# Altium schematic symbol library 野火_F103霸道_原理图封装_V2_0.SCHLIB: 141 symbols (part 2 of 2)
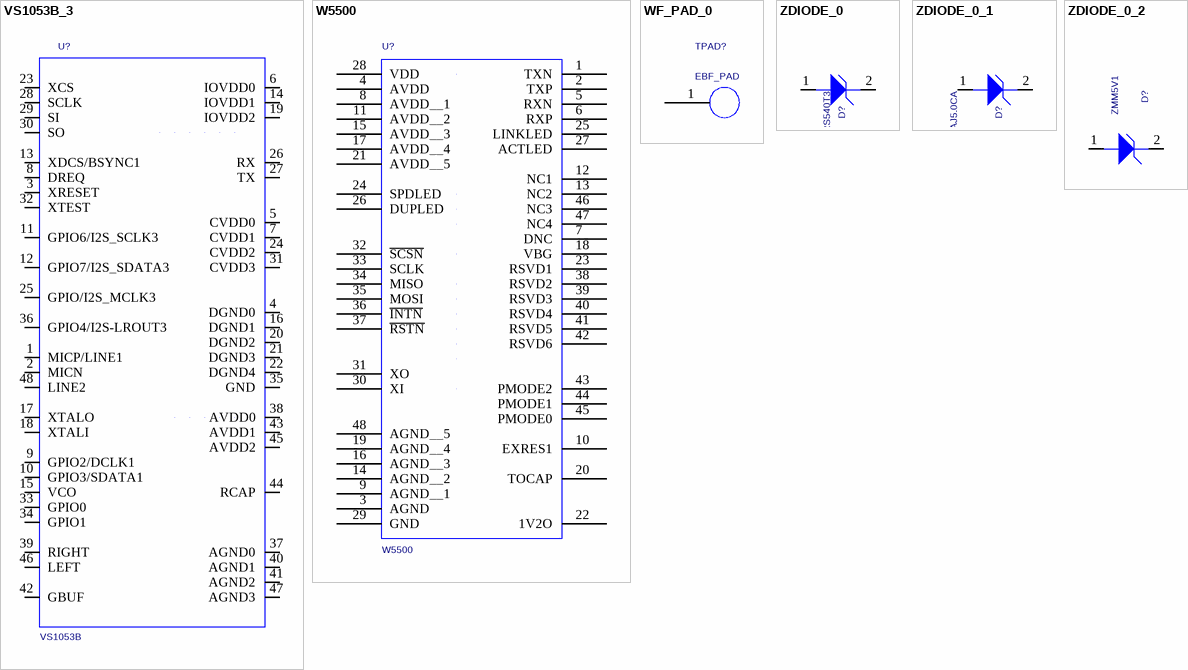
[diagram p5: symbols VS1053B_3 to ZDIODE_0_2]

## VS1053B_3
designator U?  value VS1053B  (hidden comment: VS1053B_3)
VS1053B MP3/WAV/OGG/MIDI Player & Recorder _CODEC_ Chip; PCB DECAL: LQFP48-050-0707; Source_Path: F:\STM32\F103\F103 PRO\野火_F103霸道_原理图_V2.0.DSN; MP: VS1053B-L; MF: VLSI; OriginalSymbolOrigin: (-140000,70000); Price: 11.12 USD; Package: LQFP-48 VLSI; Availability: Warning
footprint LQFP48-050-0707
pins: 1 MICP/LINE1 (io), 2 MICN (io), 3 XRESET (io), 4 DGND0 (power), 5 CVDD0 (power), 6 IOVDD0 (power), 7 CVDD1 (power), 8 DREQ (io), 9 GPIO2/DCLK1 (io), 10 GPIO3/SDATA1 (io), 11 GPIO6/I2S_SCLK3 (io), 12 GPIO7/I2S_SDATA3 (io), 13 XDCS/BSYNC1 (io), 14 IOVDD1 (power), 15 VCO, 16 DGND1 (power), 17 XTALO (io), 18 XTALI (io), 19 IOVDD2 (power), 20 DGND2 (power), 21 DGND3 (power), 22 DGND4 (power), 23 XCS (io), 24 CVDD2 (power), 25 GPIO/I2S_MCLK3 (io), 26 RX (io), 27 TX (io), 28 SCLK (io), 29 SI (io), 30 SO (io), 31 CVDD3 (power), 32 XTEST, 33 GPIO0 (io), 34 GPIO1 (io), 35 GND (power), 36 GPIO4/I2S-LROUT3 (io), 37 AGND0 (power), 38 AVDD0 (power), 39 RIGHT (io), 40 AGND1 (power), 41 AGND2 (power), 42 GBUF (io), 43 AVDD1 (power), 44 RCAP (io), 45 AVDD2 (power), 46 LEFT (io), 47 AGND3 (power), 48 LINE2 (io)

## W5500
designator U?
Victor Pure White Collection Wood Tidy Tower Organizer; PCB DECAL: LQFP48-050-0707; NC: 12,13,46,47; Source_Path: F:\STM32\F103\F103 PRO\F103.OLB; MF: WIZnet; OriginalSymbolOrigin: (-50000,160000); Value: W5500; Availability: Bad; Price: 90.62 USD; Package: LQFP-48 Victor Technologies; MP: W5500
footprint LQFP48-050-0707
pins: 1 TXN, 2 TXP, 3 AGND (power), 4 AVDD (power), 5 RXN, 6 RXP, 7 DNC, 8 AVDD__1 (power), 9 AGND__1 (power), 10 EXRES1, 11 AVDD__2 (power), 12 NC1, 13 NC2, 14 AGND__2 (power), 15 AVDD__3 (power), 16 AGND__3 (power), 17 AVDD__4 (power), 18 VBG, 19 AGND__4 (power), 20 TOCAP, 21 AVDD__5 (power), 22 1V2O, 23 RSVD1, 24 SPDLED, 25 LINKLED, 26 DUPLED, 27 ACTLED, 28 VDD (power), 29 GND, 30 XI, 31 XO, 32 ~{SCSN}, 33 SCLK, 34 MISO, 35 MOSI, 36 ~{INTN}, 37 ~{RSTN}, 38 RSVD2, 39 RSVD3, 40 RSVD4, 41 RSVD5, 42 RSVD6, 43 PMODE2, 44 PMODE1, 45 PMODE0, 46 NC3, 47 NC4, 48 AGND__5 (power)

## WF_PAD_0
designator TPAD?  value EBF_PAD  (hidden comment: WF_PAD_0)
PCB DECAL: WF_PAD; Source_Path: H:\NXP_RT1050\SCH\IMXRT1052_MB.DSN
footprint WF_PAD
pins: 1

## ZDIODE_0
designator D?  value MBRS540T3  (hidden comment: ZDIODE_0)
DIODE ZNR -- 0.2W 5.1V AEC-Q101 SOD523; PCB DECAL: SMC; AGILE_PN: 480-77217; MFG_NAME01: ON SEMICONDUCTOR; MFG_PN01: MM5Z5V1ST1G; CAD_APPROVED: Yes; Source_Path: H:\NXP_RT1050\SCH\IMXRT1052_MB.DSN; CLASS: IC; ROHS: Yes; HEIGHT: 0.7MM
footprint SMC
pins: 1 ANODE, 2 CATHODE

## ZDIODE_0_1
designator D?, comment value SMAJ5.0CA  (hidden comment: ZDIODE_0)
DIODE ZNR -- 0.2W 5.1V AEC-Q101 SOD523; CAD_APPROVED: Yes; MFG_PN01: MM5Z5V1ST1G; MFG_NAME01: ON SEMICONDUCTOR; AGILE_PN: 480-77217; PCB DECAL: DO214; Source_Path: H:\NXP_RT1050\SCH\IMXRT1052_MB.DSN; CLASS: IC; HEIGHT: 0.7MM; ROHS: Yes
footprint DO214
pins: 1 ANODE, 2 CATHODE

## ZDIODE_0_2
designator D?, comment value ZMM5V1  (hidden comment: ZDIODE_0)
DIODE ZNR -- 0.2W 5.1V AEC-Q101 SOD523; PCB DECAL: D1206; AGILE_PN: 480-77217; MFG_NAME01: ON SEMICONDUCTOR; MFG_PN01: MM5Z5V1ST1G; CAD_APPROVED: Yes; Source_Path: H:\NXP_RT1050\SCH\IMXRT1052_MB.DSN; CLASS: IC; ROHS: Yes; HEIGHT: 0.7MM
footprint D1206
pins: 1 ANODE, 2 CATHODE